# Altium schematic symbol library BAS516.SchLib: 2 symbols
Pins are listed as number, name and electrical type; pins without a type are passive.

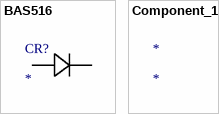
[diagram p0: symbols BAS516 to Component_1]

## BAS516
designator CR?
No Description Available; Mfr_Name: Nexperia
footprint SOD523_NEX
pins: 1, 2

## Component_1
designator *